# Altium footprint library ICs.PcbLib: 115 footprints (part 6 of 8)
Each footprint in its own frame and in the unit in brackets; x right, y up, seen from the top. Pads: shape width x height; smd on the part's side, far side on the other; paste and mask are expansions set on the pad; w line width, h text height; cw(c..) or ccw(c..) is an arc to the next point about the centre after c.
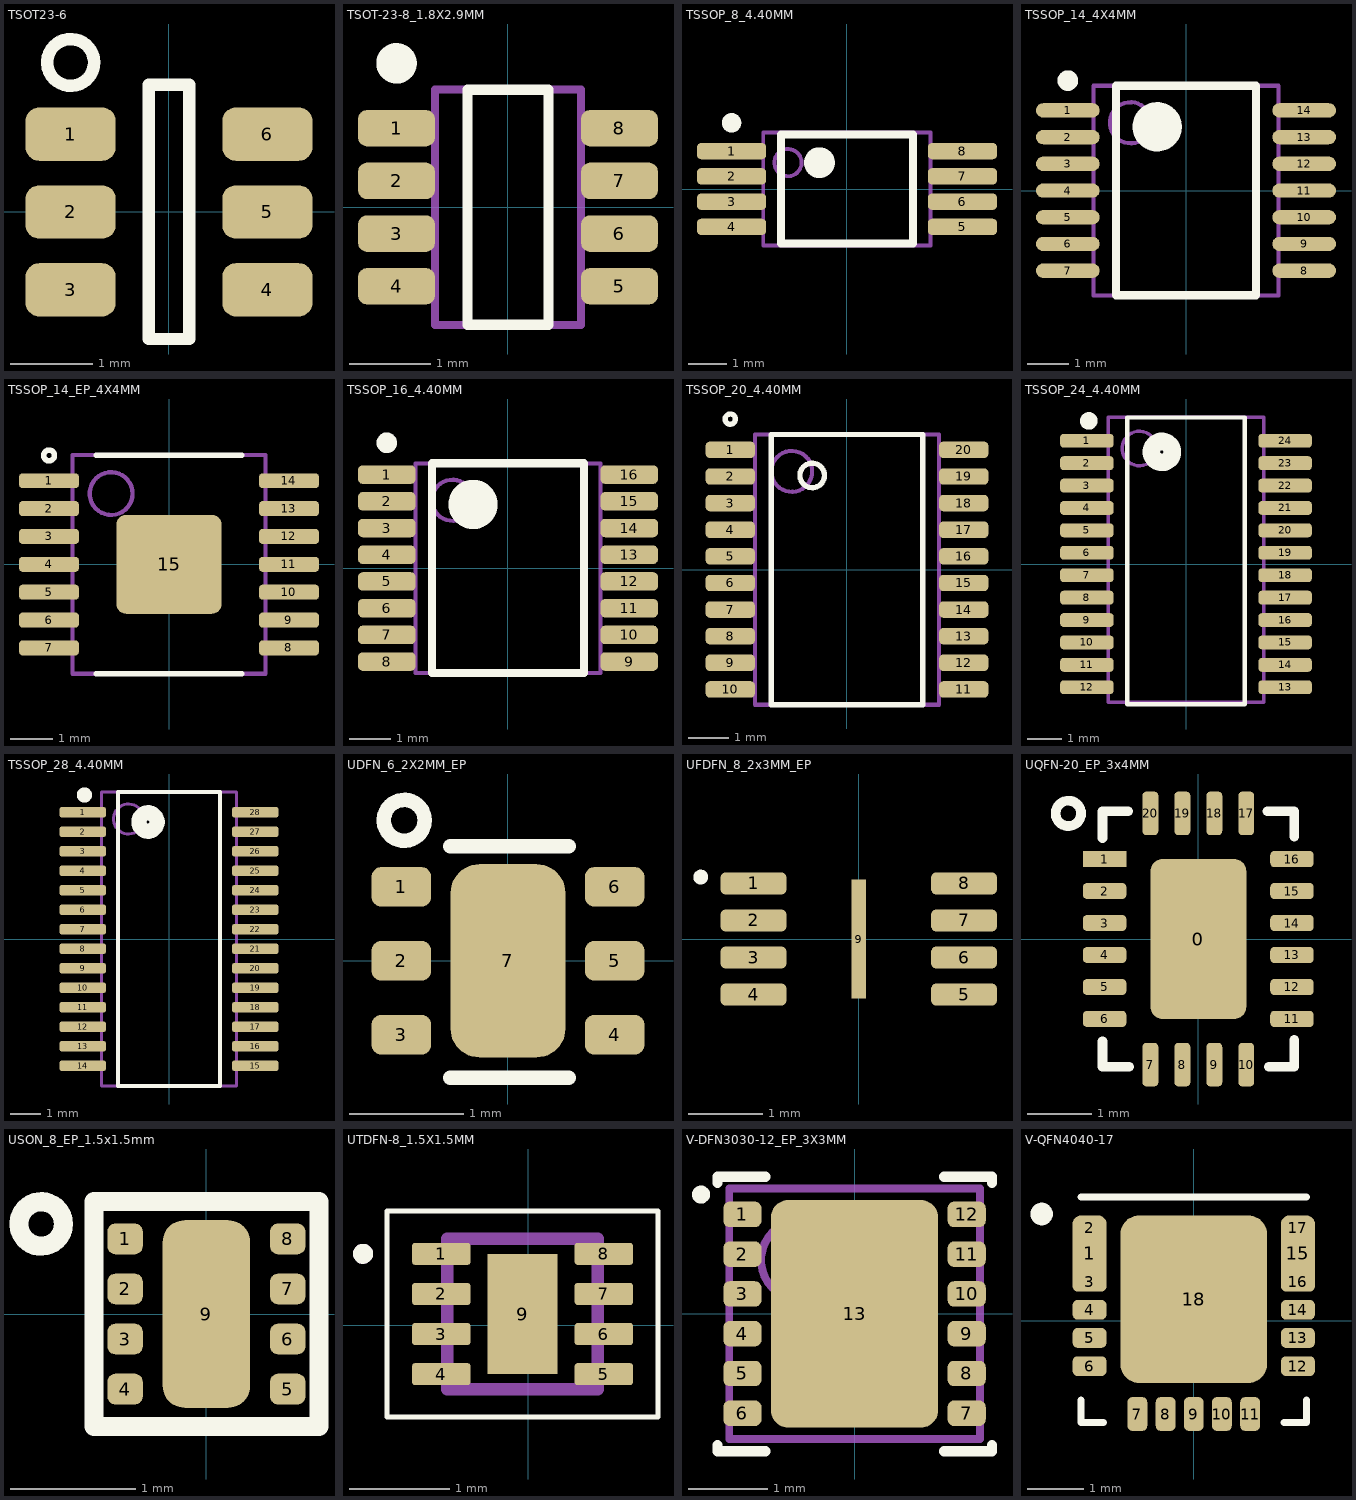
[diagram p5: the footprints below, top view; thin cyan lines are the x and y axes]

## TSOT23-6 [mm] "/20220413/V-A.Patino"
height 1
pads (6):
  rrect50% 1.1x0.65 smd: 1(-1.2,0.95) 2(-1.2,0) 3(-1.2,-0.95) 4(1.2,-0.95) 5(1.2,0) 6(1.2,0.95)
Top Overlay:
  circle w0.152: c-1.2,1.825 r0.286
  lines w0.152: -0.25,-1.55 -0.25,1.55 0.25,1.55 0.25,-1.55 -0.25,-1.55
3D body: height 1, standoff 0.01, extent -0.875,-1.535 0.875,1.535

## TSOT-23-8_1.8X2.9MM [mm] "SOT-23-8 Thin, TSOT-23-8/20210809/N-A.Potosi"
pads (8):
  rrect50% 0.95x0.45 smd: 1(-1.375,0.975) 2(-1.375,0.325) 3(-1.375,-0.325) 4(-1.375,-0.975) 5(1.375,-0.975) 6(1.375,-0.325) 7(1.375,0.325) 8(1.375,0.975)
Top Overlay:
  circle w0.25: c-1.375,1.775 r0.125
  lines w0.127: -0.5,-1.45 -0.5,1.45 0.5,1.45 0.5,-1.45 -0.5,-1.45
Mechanical 1:
  lines w0.1: -0.9,-1.45 -0.9,1.45 0.9,1.45 0.9,-1.45 -0.9,-1.45
3D body: height 1, standoff 0.1, extent -0.9,-1.45 0.9,1.45

## TSSOP_8_4.40MM [mm] "/ 20210809 / C-D Viveros"
pads (8):
  rrect50% 1.78x0.42 smd: 1(-2.97,0.975) 2(-2.97,0.325) 3(-2.97,-0.325) 4(-2.97,-0.975) 5(2.97,-0.975) 6(2.97,-0.325) 7(2.97,0.325) 8(2.97,0.975)
Top Overlay:
  circle w0.6: c-0.709,0.678 r0.094
  circle w0.25: c-2.97,1.704 r0.125
  lines w0.2: -1.7,1.388 -1.7,-1.4 1.7,-1.4 1.7,1.4 -1.7,1.4
Mechanical 1:
  circle w0.1: c-1.519,0.678 r0.35
  lines w0.1: -2.156,-1.45 -2.156,1.45 2.149,1.45 2.149,-1.45 -2.156,-1.45
3D body "User Library-TSSOP-8.STEP": height 1.21, standoff 0.01, extent -3.2,-1.5 3.2,1.5

## TSSOP_14_4X4MM [mm] "/ 20210809 / C-A.Serna.A"
height 1.2
pads (14):
  oval 1.55x0.35 smd: 1(-2.875,1.95) 2(-2.875,1.3) 3(-2.875,0.65) 4(-2.875,0) 5(-2.875,-0.65) 6(-2.875,-1.3) 7(-2.875,-1.95) 8(2.875,-1.95) 9(2.875,-1.3) 10(2.875,-0.65) 11(2.875,0) 12(2.875,0.65) 13(2.875,1.3) 14(2.875,1.95)
Top Overlay:
  circle w0.25: c-2.875,2.675 r0.125
  circle w0.6: c-0.7,1.55 r0.3
  lines w0.2: -1.7,-2.55 -1.7,2.55 1.7,2.55 1.7,-2.55 -1.7,-2.55
Mechanical 1:
  circle w0.1: c-1.35,1.65 r0.5
  lines w0.1: -2.25,-2.55 -2.25,2.55 2.25,2.55 2.25,-2.55 -2.25,-2.55
3D body: height 1.2, standoff 0.05, extent -2.25,-2.55 2.25,2.55

## TSSOP_14_EP_4X4MM [mm] "HTSSOP_14/20210809/J-E.Pachon"
pads (15):
  rrect50% 1.4x0.35 smd: 1(-2.8,1.95) 2(-2.8,1.3) 3(-2.8,0.65) 4(-2.8,0) 5(-2.8,-0.65) 6(-2.8,-1.3) 7(-2.8,-1.95) 8(2.8,-1.95) 9(2.8,-1.3) 10(2.8,-0.65) 11(2.8,0) 12(2.8,0.65) 13(2.8,1.3) 14(2.8,1.95)
  rrect20% 2.46x2.31 smd: 15(0,0)
Top Overlay:
  circle w0.127: c-2.8,2.54 r0.125
  lines w0.127: -1.7,-2.55 1.7,-2.55 ; -1.7,2.55 1.7,2.55
Mechanical 1:
  circle w0.1: c-1.35,1.65 r0.5
  lines w0.1: -2.25,-2.55 -2.25,2.55 2.25,2.55 2.25,-2.55 -2.25,-2.55
3D body: height 1.1, standoff 0.05, extent -2.25,-2.55 2.25,2.55

## TSSOP_16_4.40MM [mm] "/ 20190923 / C-D Viveros"
pads (16):
  rrect50% 1.4x0.45 smd: 1(-2.95,2.275) 2(-2.95,1.625) 3(-2.95,0.975) 4(-2.95,0.325) 5(-2.95,-0.325) 6(-2.95,-0.975) 7(-2.95,-1.625) 8(-2.95,-2.275) 9(2.95,-2.275) 10(2.95,-1.625) 11(2.95,-0.975) 12(2.95,-0.325) 13(2.95,0.325) 14(2.95,0.975) 15(2.95,1.625) 16(2.95,2.275)
Top Overlay:
  circle w0.6: c-0.85,1.55 r0.3
  circle w0.25: c-2.95,3.05 r0.125
  lines w0.2: -1.85,-2.55 1.85,-2.55 1.85,2.55 -1.85,2.55 -1.85,-2.55
Mechanical 1:
  circle w0.1: c-1.35,1.65 r0.5
  lines w0.1: -2.25,-2.55 2.25,-2.55 2.25,2.55 -2.25,2.55 -2.25,-2.55
3D body "PW0016AakaMTC16.stp": height 1, standoff 0, extent -3.21,-2.5 3.21,2.5

## TSSOP_20_4.40MM [mm] "20210806/J-E.Pachon"
pads (20):
  rrect50% 1.2x0.4 smd: 1(-2.85,2.925) 2(-2.85,2.275) 3(-2.85,1.625) 4(-2.85,0.975) 5(-2.85,0.325) 6(-2.85,-0.325) 7(-2.85,-0.975) 8(-2.85,-1.625) 9(-2.85,-2.275) 10(-2.85,-2.925) 11(2.85,-2.925) 12(2.85,-2.275) 13(2.85,-1.625) 14(2.85,-0.975) 15(2.85,-0.325) 16(2.85,0.325) 17(2.85,0.975) 18(2.85,1.625) 19(2.85,2.275) 20(2.85,2.925)
Top Overlay:
  circle w0.127: c-2.85,3.675 r0.125
  circle w0.127: c-0.85,2.3 r0.3
  lines w0.127: -1.85,-3.3 -1.85,3.3 1.85,3.3 1.85,-3.3 -1.85,-3.3
Mechanical 1:
  circle w0.1: c-1.35,2.4 r0.5
  lines w0.1: -2.25,-3.3 2.25,-3.3 2.25,3.3 -2.25,3.3 -2.25,-3.3
3D body "PW0020AakaMTC20.stp": height 1, standoff 0, extent -3.21,-3.25 3.21,3.25

## TSSOP_24_4.40MM [mm] "24-TSSOP /20200212/ N-A.Potosi"
pads (24):
  rrect50% 1.55x0.4 smd: 1(-2.875,3.575) 2(-2.875,2.925) 3(-2.875,2.275) 4(-2.875,1.625) 5(-2.875,0.975) 6(-2.875,0.325) 7(-2.875,-0.325) 8(-2.875,-0.975) 9(-2.875,-1.625) 10(-2.875,-2.275) 11(-2.875,-2.925) 12(-2.875,-3.575) 13(2.875,-3.575) 14(2.875,-2.925) 15(2.875,-2.275) 16(2.875,-1.625) 17(2.875,-0.975) 18(2.875,-0.325) 19(2.875,0.325) 20(2.875,0.975) 21(2.875,1.625) 22(2.875,2.275) 23(2.875,2.925) 24(2.875,3.575)
Top Overlay:
  circle w0.254: c-2.819,4.151 r0.127
  circle w0.508: c-0.7,3.25 r0.305
  lines w0.127: -1.7,-4.064 -1.7,4.25 1.7,4.25 1.7,-4.064 -1.7,-4.064
Mechanical 1:
  circle w0.1: c-1.35,3.35 r0.5
  lines w0.1: -2.25,-4.003 2.25,-4.003 2.25,4.25 -2.25,4.25 -2.25,-4.003
3D body "User Library-TSSOP24_(JEDEC_MO-153).step": height 1.17, standoff -0.03, extent -3.227,-3.95 3.329,3.95

## TSSOP_28_4.40MM [mm] "28-TSSOP 4.40mm,MO-153 /20210809/ N-A.Potosi"
pads (28):
  rrect50% 1.55x0.35 smd: 1(-2.875,4.225) 2(-2.875,3.575) 3(-2.875,2.925) 4(-2.875,2.275) 5(-2.875,1.625) 6(-2.875,0.975) 7(-2.875,0.325) 8(-2.875,-0.325) 9(-2.875,-0.975) 10(-2.875,-1.625) 11(-2.875,-2.275) 12(-2.875,-2.925) 13(-2.875,-3.575) 14(-2.875,-4.225) 15(2.875,-4.225) 16(2.875,-3.575) 17(2.875,-2.925) 18(2.875,-2.275) 19(2.875,-1.625) 20(2.875,-0.975) 21(2.875,-0.325) 22(2.875,0.325) 23(2.875,0.975) 24(2.875,1.625) 25(2.875,2.275) 26(2.875,2.925) 27(2.875,3.575) 28(2.875,4.225)
Top Overlay:
  circle w0.254: c-2.819,4.801 r0.127
  circle w0.508: c-0.7,3.9 r0.305
  lines w0.127: -1.7,-4.9 -1.7,4.9 1.7,4.9 1.7,-4.9 -1.7,-4.9
Mechanical 1:
  circle w0.1: c-1.35,4 r0.5
  lines w0.1: -2.25,-4.9 2.25,-4.9 2.25,4.9 -2.25,4.9 -2.25,-4.9
3D body: height 1.2, standoff 0.05, extent -2.25,-4.9 2.25,4.9

## UDFN_6_2X2MM_EP [mm] "20190516/ V-A.Patino"
pads (7):
  rrect50% 0.525x0.35 smd: 1(-0.937,0.65) 2(-0.937,0) 3(-0.937,-0.65) 4(0.938,-0.65) 5(0.938,0) 6(0.938,0.65)
  rrect50% 1.01x1.7 smd: 7(0,0)
Top Overlay:
  circle w0.127: c-0.912,1.234 r0.18
  lines w0.127: -0.506,-1.026 0.536,-1.026 ; -0.506,1.006 0.536,1.006
3D body "User Library-SOT1118 DFN2020-6.STEP": height 0.67, standoff 0.02, extent -1.063,-1.014 1.017,0.994

## UFDFN_8_2x3MM_EP [mm] "USON-8 / 20220718 / E.Naranjo"
pads (9):
  rrect50% 0.89x0.3 smd: 1(-1.42,0.75) 2(-1.42,0.25) 3(-1.42,-0.25) 4(-1.42,-0.75) 5(1.42,-0.75) 6(1.42,-0.25) 7(1.42,0.25) 8(1.42,0.75)
  rect 0.2x1.6 smd: 9(0,0)
Top Overlay:
  circle w0.1: c-2.132,0.835 r0.05
3D body "W25X20CLUXIG TR.STEP": height 0.56, standoff -0.04, extent -1.519,-0.996 1.482,1.004

## UQFN-20_EP_3x4MM [mm]
pads (21):
  rrect25% 1.5x2.5 smd: 0(0,0)
  rect 0.68x0.25 smd: 1(-1.465,1.25)
  rrect50% 0.68x0.25 smd: 2(-1.465,0.75) 3(-1.465,0.25) 4(-1.465,-0.25) 5(-1.465,-0.75) 6(-1.465,-1.25) 11(1.465,-1.25) 12(1.465,-0.75) 13(1.465,-0.25) 14(1.465,0.25) 15(1.465,0.75) 16(1.465,1.25)
  rrect50% 0.25x0.68 smd: 7(-0.75,-1.965) 8(-0.25,-1.965) 9(0.25,-1.965) 10(0.75,-1.965) 17(0.75,1.965) 18(0.25,1.965) 19(-0.25,1.965) 20(-0.75,1.965)
Top Overlay:
  circle w0.152: c-2.032,1.965 r0.199
  lines w0.152: -1.5,-1.6 -1.5,-2 -1.079,-2 ; -1.5,1.579 -1.5,2 -1.1,2 ; 1.079,2 1.5,2 1.5,1.6 ; 1.1,-2 1.5,-2 1.5,-1.579
3D body: height 0.55, standoff 0, extent -1.5,-2 1.5,2

## USON_8_EP_1.5x1.5mm [mm] "/20210809/V-A.Patino"
pads (9):
  rrect50% 0.282x0.245 smd: 1(-0.65,0.6) 2(-0.65,0.2) 3(-0.65,-0.2) 4(-0.65,-0.6) 5(0.65,-0.6) 6(0.65,-0.2) 7(0.65,0.2) 8(0.65,0.6)
  rrect50% 0.7x1.5 smd: 9(0,0)
Top Overlay:
  circle w0.152: c-1.321,0.72 r0.178
  lines w0.152: -0.9,-0.9 -0.9,0.9 0.9,0.9 0.9,-0.9 -0.9,-0.9
3D body: height 0.5, standoff 0, extent -0.75,-0.75 0.75,0.75

## UTDFN-8_1.5X1.5MM [mm] "/20221215/J-E.Pachon"
pads (9):
  rrect25% 0.58x0.22 smd: 1(-0.866,0.712) 2(-0.866,0.312) 3(-0.866,-0.088) 4(-0.866,-0.488) 5(0.754,-0.488) 6(0.754,-0.088) 7(0.754,0.312) 8(0.754,0.712)
  rect 0.7x1.2 smd paste-2: 9(-0.056,0.112)
Top Overlay:
  circle w0.1: c-1.646,0.712 r0.05
  lines w0.05: -1.406,-0.913 -1.406,1.137 1.294,1.137 1.294,-0.913 -1.406,-0.913
Top Paste:
  region: 0.164,-0.268 -0.276,-0.268 -0.276,0.492 0.164,0.492
Mechanical 13:
  circle w0.1: c-1.646,0.712 r0.05
  lines w0.127: -0.806,-0.638 0.694,-0.638 0.694,0.862 -0.806,0.862 -0.806,-0.638
3D body: height 0.5, standoff 0, extent -1.016,-0.639 0.881,0.864

## V-DFN3030-12_EP_3X3MM [mm] "12-WFDFN / 20210809 / J-E.Pachon"
pads (13):
  rrect50% 0.48x0.32 smd: 1(-1.41,1.25) 2(-1.41,0.75) 3(-1.41,0.25) 4(-1.41,-0.25) 5(-1.41,-0.75) 6(-1.41,-1.25) 7(1.41,-1.25) 8(1.41,-0.75) 9(1.41,-0.25) 10(1.41,0.25) 11(1.41,0.75) 12(1.41,1.25)
  rrect20% 2.1x2.86 smd: 13(0,0)
Top Overlay:
  circle w0.127: c-1.93,1.499 r0.05
  lines w0.127: -1.723,-1.652 -1.723,-1.727 -1.123,-1.727 ; -1.723,1.648 -1.723,1.723 -1.123,1.723 ; 1.127,-1.727 1.727,-1.727 1.727,-1.652 ; 1.127,1.723 1.727,1.723 1.727,1.648
Mechanical 1:
  circle w0.1: c-0.675,0.675 r0.5
  lines w0.1: -1.575,-1.575 1.575,-1.575 1.575,1.575 -1.575,1.575 -1.575,-1.575
3D body: height 0.6, standoff 0, extent -1.575,-1.575 1.575,1.575

## V-QFN4040-17 [mm] "20230804/J-A.Sepulveda"
pads (18):
  rrect50% 0.6x1.35 smd: 1(-1.85,1.196) 15(1.85,1.196)
  rrect50% 0.6x0.35 smd: 2(-1.85,1.654) 3(-1.85,0.696) 4(-1.85,0.196) 5(-1.85,-0.304) 6(-1.85,-0.804) 12(1.85,-0.804) 13(1.85,-0.304) 14(1.85,0.196) 16(1.85,0.696) 17(1.85,1.654)
  rrect50% 0.35x0.6 smd: 7(-1,-1.654) 8(-0.5,-1.654) 9(0,-1.654) 10(0.5,-1.654) 11(1,-1.654)
  rrect25% 2.6x2.975 smd: 18(0,0.384)
Top Overlay:
  circle w0.2: c-2.7,1.896 r0.1
  lines w0.127: -2,-1.404 -2,-1.804 -1.6,-1.804 ; -2,2.196 2,2.196 ; 1.6,-1.804 2,-1.804 2,-1.404
3D body "step_temp.STEP": height 0.86, standoff 0.01, extent -2,-1.804 2,2.196